# Altium footprint library Seiko.PcbLib: 3 footprints
Each footprint in its own frame and in the unit in brackets; x right, y up, seen from the top. Pads: shape width x height; smd on the part's side, far side on the other; paste and mask are expansions set on the pad; w line width, h text height; cw(c..) or ccw(c..) is an arc to the next point about the centre after c.
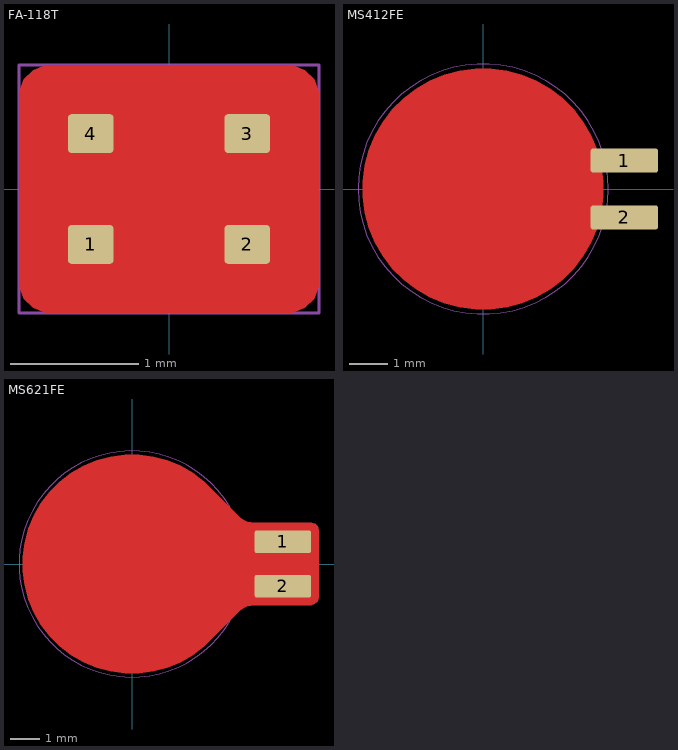
[diagram p0: the footprints below, top view; thin cyan lines are the x and y axes]

## FA-118T [mil]
pads (4):
  rrect20% 14x12 smd paste+0 mask+1.5: 1(-24,-17) 2(24,-17) 3(24,17) 4(-24,17)
Top Layer:
  region: 10.34,4.44 35.93,4.44 36.32,4.44 37.05,4.74 37.6,5.29 37.9,6.01 37.9,6.41 37.9,26.09 37.9,26.87 37.3,28.32 36.19,29.43 34.75,30.03 33.96,30.03 10.34,30.03 9.95,30.03 9.23,29.73 8.67,29.17 8.37,28.45 8.37,28.06 8.37,6.41 8.37,6.01 8.67,5.29 9.23,4.74 9.95,4.44
  region: -10.34,-4.44 -35.93,-4.44 -36.32,-4.44 -37.05,-4.74 -37.6,-5.29 -37.9,-6.01 -37.9,-6.41 -37.9,-26.09 -37.9,-26.87 -37.3,-28.32 -36.19,-29.43 -34.75,-30.03 -33.96,-30.03 -10.34,-30.03 -9.95,-30.03 -9.23,-29.73 -8.67,-29.17 -8.37,-28.45 -8.37,-28.06 -8.37,-6.41 -8.37,-6.01 -8.67,-5.29 -9.23,-4.74 -9.95,-4.44
  region: 10.34,-4.44 35.93,-4.44 36.32,-4.44 37.05,-4.74 37.6,-5.29 37.9,-6.01 37.9,-6.41 37.9,-26.09 37.9,-26.87 37.3,-28.32 36.19,-29.43 34.75,-30.03 33.96,-30.03 10.34,-30.03 9.95,-30.03 9.23,-29.73 8.67,-29.17 8.37,-28.45 8.37,-28.06 8.37,-6.41 8.37,-6.01 8.67,-5.29 9.23,-4.74 9.95,-4.44
  region: -10.34,4.44 -35.93,4.44 -36.32,4.44 -37.05,4.74 -37.6,5.29 -37.9,6.01 -37.9,6.41 -37.9,26.09 -37.9,26.87 -37.3,28.32 -36.19,29.43 -34.75,30.03 -33.96,30.03 -10.34,30.03 -9.95,30.03 -9.23,29.73 -8.67,29.17 -8.37,28.45 -8.37,28.06 -8.37,6.41 -8.37,6.01 -8.67,5.29 -9.23,4.74 -9.95,4.44
  pour cut-out: -36,38 -37.99,38 -41.66,36.48 -44.48,33.66 -46,29.99 -46,28 -46,-28 -46,-29.99 -44.48,-33.66 -41.66,-36.48 -37.99,-38 -36,-38 36,-38 37.99,-38 41.66,-36.48 44.48,-33.66 46,-29.99 46,-28 46,28 46,29.99 44.48,33.66 41.66,36.48 37.99,38 36,38
Top Courtyard:
  lines w1: -46,-38 46,-38 46,38 -46,38 -46,-38
Top Component Outline:
  lines w1: -32.68,-5.91 -9.84,-5.91 -9.84,-24.78 ; -32.68,-5.91 -32.68,5.91 ; -32.68,-5.91 -32.68,-24.78 -9.84,-24.78 ; -32.68,5.91 -9.84,5.91 -9.84,24.78 ; -32.68,5.91 -32.68,24.78 -9.84,24.78 ; -9.84,-24.78 9.84,-24.78 ; -9.84,24.78 9.84,24.78 ; 9.84,-24.78 9.84,-5.91 32.68,-5.91 ; 9.84,-24.78 32.68,-24.78 32.68,-5.91 ; 9.84,24.78 9.84,5.91 32.68,5.91 ; 9.84,24.78 32.68,24.78 32.68,5.91 ; 32.68,-5.91 32.68,5.91
3D body "User Library-Siward_AX1612.step": height 16.14, standoff 0, extent -32.68,-24.78 32.68,24.78

## MS412FE [mm]
height 1.6
pads (2):
  rrect20% 1.778x0.635 smd mask+0.051: 1(3.725,0.75) 2(3.725,-0.75)
Top Layer:
  pour cut-out: 3.175,0 3.175,0.208 3.121,0.621 3.013,1.023 2.854,1.407 2.646,1.768 2.392,2.098 2.098,2.392 1.768,2.646 1.407,2.854 1.023,3.013 0.621,3.121 0.208,3.175 0,3.175 -0.208,3.175 -0.621,3.121 -1.023,3.013 -1.407,2.854 -1.768,2.646 -2.098,2.392 -2.392,2.098 -2.646,1.768 -2.854,1.407 -3.013,1.023 -3.121,0.621 -3.175,0.208 -3.175,0 -3.175,-0.208 -3.121,-0.621 -3.013,-1.023 -2.854,-1.407 -2.646,-1.768 -2.392,-2.098 -2.098,-2.392 -1.768,-2.646 -1.407,-2.854 -1.023,-3.013 -0.621,-3.121 -0.208,-3.175 0,-3.175 0.208,-3.175 0.621,-3.121 1.023,-3.013 1.407,-2.854 1.768,-2.646 2.098,-2.392 2.392,-2.098 2.646,-1.768 2.854,-1.407 3.013,-1.023 3.121,-0.621 3.175,-0.208
Top Solder:
  lines w0.152: 3.556,1.905 4.064,1.905 ; 3.81,1.651 3.81,2.159
Top Designator:
  text ".Designator" at -3.242,-0.317 h0.89
Top Courtyard:
  circle w0.025: c0,0 r3.302
3D body: height 1.6, standoff 0, extent -2.4,-2.4 2.4,2.4

## MS621FE [mil]
pads (2):
  rrect20% 75x30 smd mask+2: 1(200,29.53) 2(200,-29.53)
Top Layer:
  pour cut-out: 102.53,-102.53 143.03,-62.03 144.78,-60.45 148.69,-57.83 153.03,-56.03 157.65,-55.12 160,-55 235,-55 237.59,-55 242.36,-53.02 246.02,-49.36 248,-44.59 248,-42 248,43 248,45.39 246.17,49.8 242.8,53.17 238.39,55 236,55 160,55 157.65,55.12 153.03,56.03 148.69,57.83 144.78,60.45 143.03,62.03 102.53,102.53 100,95.81 100,-96
  pour cut-out: 0,145 -9.5,145 -28.35,142.52 -46.71,137.6 -64.27,130.32 -80.73,120.82 -95.81,109.25 -109.25,95.81 -120.82,80.73 -130.33,64.27 -137.6,46.71 -142.52,28.35 -145,9.5 -145,0 -145,-9.5 -142.52,-28.35 -137.6,-46.71 -130.33,-64.27 -120.82,-80.73 -109.25,-95.81 -95.81,-109.25 -80.73,-120.82 -64.27,-130.33 -46.71,-137.6 -28.35,-142.52 -9.5,-145 0,-145 9.5,-145 28.35,-142.52 46.71,-137.6 64.27,-130.33 80.73,-120.82 95.81,-109.25 109.25,-95.81 120.82,-80.73 130.33,-64.27 137.6,-46.71 142.52,-28.35 145,-9.5 145,0 145,9.5 142.52,28.35 137.6,46.71 130.33,64.27 120.82,80.73 109.25,95.81 95.81,109.25 80.73,120.82 64.27,130.32 46.71,137.6 28.35,142.52 9.5,145
Top Solder:
  lines w6: 125,30 145,30 ; 135,20 135,40
Top Designator:
  text ".Designator" at -127.64,-12.5 h35
Top Courtyard:
  circle w1: c0,0 r150
3D body "User Library-MS621FE-1.STEP": height 110.07, standoff -0.17, extent -133.85,-133.85 232.02,133.87